# Altium schematic symbol library 865230343004.SchLib: 1 symbol
Pins are listed as number, name and electrical type; pins without a type are passive.

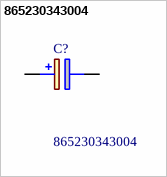
[diagram p0: symbol 865230343004]

## 865230343004
designator C?
WCAP-AS5H Aluminum Electrolytic Capacitors ASDD055470M016DVCTBE000; SMT V-Chip; 47 F +/- 20%; 16 V(DC); 5000 h; -40C / +105C; size DxL 6.3 x 5.5; Max. Iripple 50 mA @120 Hz; LC 7.52 A; DF 22 %; Manufacturer_Name: Wurth Elektronik; Geometry.Height: 5.7mm; Farnell Part Number: *; Farnell Price/Stock: *; Manufacturer_Part_Number: 865230343004; Datasheet Link: https://www.we-online.com/catalog/datasheet/865230343004.pdf
footprint CAPAE660X570N
pins: 1 +, 2 -